# EAGLE library part ESP32T-CALL (library Bikota)
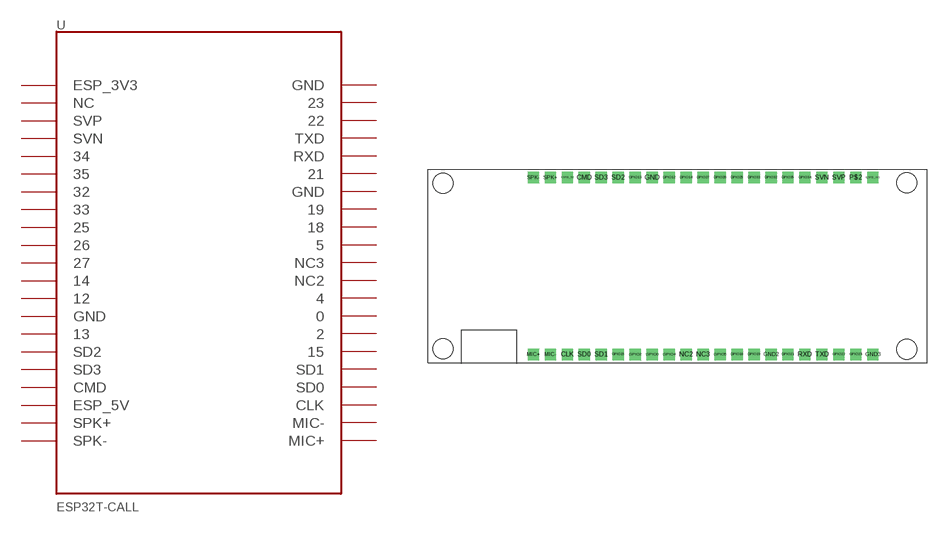
[diagram p0: symbol with the pads of ESP32T-CALL; footprint ESP32T-CALL]

Designator prefix -

## ESP32T-CALL  [ESP32T-CALL]
CLK  CLK
CMD  CMD
ESP32_3V3  ESP_3V3  pwr
ESP32_5V  ESP_5V  pwr
GND  GND  pwr
GND2  GND  pwr
GND3  GND  pwr
GPIO0  0
GPIO2  2
GPIO4  4
GPIO5  5
GPIO12  12
GPIO13  13
GPIO14  14
GPIO15  15
GPIO18  18
GPIO19  19
GPIO21  21
GPIO22  22
GPIO23  23
GPIO25  25
GPIO26  26
GPIO27  27
GPIO32  32
GPIO33  33
GPIO34  34
GPIO35  35
MIC+  MIC+
MIC-  MIC-
NC2  NC2
NC3  NC3
P$2  NC
RXD  RXD
SD0  SD0
SD1  SD1
SD2  SD2
SD3  SD3
SPK+  SPK+
SPK-  SPK-
SVN  SVN
SVP  SVP
TXD  TXD

## Footprint ESP32T-CALL (pad centres in mm)
drill 1.1 pad 1.676 square: CLK -16.51,-13.225; CMD -13.97,13.225; ESP32_3V3 29.21,13.225; ESP32_5V -16.51,13.225; GND -3.81,13.225; GND2 13.97,-13.225; GND3 29.21,-13.225; GPIO0 -3.81,-13.225; GPIO2 -6.35,-13.225; GPIO4 -1.27,-13.225; GPIO5 6.35,-13.225; GPIO12 -1.27,13.225; GPIO13 -6.35,13.225; GPIO14 1.27,13.225; GPIO15 -8.89,-13.225; GPIO18 8.89,-13.225; GPIO19 11.43,-13.225; GPIO21 16.51,-13.225; GPIO22 24.13,-13.225; GPIO23 26.67,-13.225; GPIO25 8.89,13.225; GPIO26 6.35,13.225; GPIO27 3.81,13.225; GPIO32 13.97,13.225; GPIO33 11.43,13.225; GPIO34 19.05,13.225; GPIO35 16.51,13.225; MIC+ -21.59,-13.225; MIC- -19.05,-13.225; NC2 1.27,-13.225; NC3 3.81,-13.225; P$2 26.67,13.225; RXD 19.05,-13.225; SD0 -13.97,-13.225; SD1 -11.43,-13.225; SD2 -8.89,13.225; SD3 -11.43,13.225; SPK+ -19.05,13.225; SPK- -21.59,13.225; SVN 21.59,13.225; SVP 24.13,13.225; TXD 21.59,-13.225
hole 3 at 34.27,12.445
hole 3 at 34.27,-12.445
hole 3 at -35.09,12.395
hole 3 at -35.09,-12.395